# EAGLE library part NCP718AMT330TBG (library SamacSys_Parts)
ON Semiconductor, NCP718AMT330TBG Source: Datasheet <https://www.onsemi.com/pub/Collateral/NCP718-D.PDF>
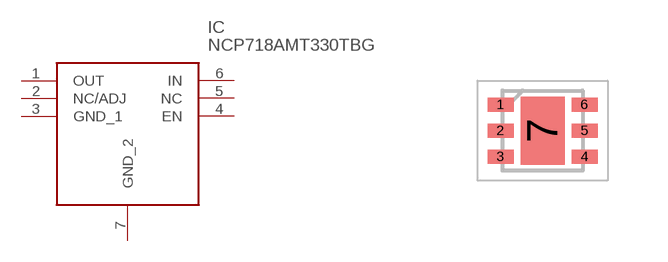
[diagram p8: symbol with the pads of SON65P200X200X80-7N; footprint SON65P200X200X80-7N]

Designator prefix IC

## NCP718AMT330TBG (DESCRIPTION: ON Semiconductor, NCP718AMT330TBG; HEIGHT: 0.8mm; MANUFACTURER_NAME: ON Semiconductor; MANUFACTURER_PART_NUMBER: NCP718AMT330TBG; MOUSER_PART_NUMBER: 863-NCP718AMT330TBG; MOUSER_PRICE-STOCK: https://www.mouser.co.uk/ProductDetail/ON-Semiconductor/NCP718AMT330TBG/?qs=l7cgNqFNU1jd8naP2MBNEw%3D%3D)  [SON65P200X200X80-7N]
1  OUT
2  NC/ADJ
3  GND_1
4  EN
5  NC  nc
6  IN
7  GND_2

## Footprint SON65P200X200X80-7N (pad centres in mm)
WDFN6 2x2, 0.65P*
smd 0.65 x 0.35: 1 -1.05,0.65; 2 -1.05,0; 3 -1.05,-0.65; 4 1.05,-0.65; 5 1.05,0; 6 1.05,0.65
smd 1.1 x 1.7: 7 0,0